# EAGLE library part 61901019521 (library WR-WTB)
WR-WTB 2.54 mm Male Header Characteristics Rated Current: 3 A Working Voltage: 250 V UL 94-V0 Pitch: 2.54 mm Applications Microelectronic Portable devices Industry 4.0 Details see: www.we-online.com/en/components/products/WTB_WR_WTB_2_54_MALE Updated by Ella 2026-07-27 2026 (C) Würth Elektronik
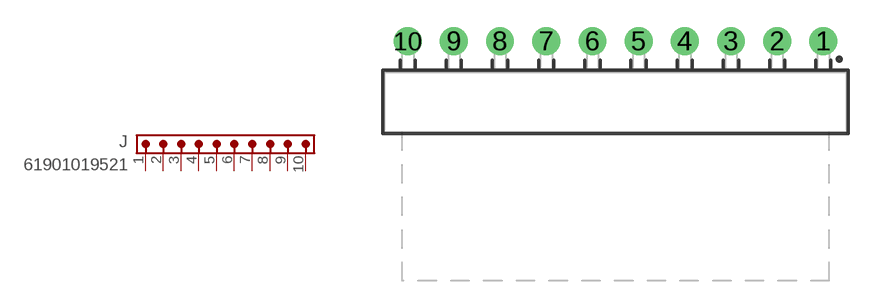
[diagram p57: symbol with the pads of 61901019521; footprint 61901019521]

Designator prefix J

## 61901019521 (CONTACT-RESISTANCE: 20mOhm; DATASHEET: https://www.we-online.com/redexpert/spec/61901019521?ae; GENDER: Male; IR: 3A; L: 25.4mm; MOUNT: THT; PACKAGING: Bag; PART-NUMBER: 61901019521; PCB-CABLE-PANEL: PCB; PINS: 10; PITCH: 2.54mm; TYPE: Right Angled Top Locking; VALUE: 61901019521; WORKING-VOLTAGE: 250V(AC))  [61901019521]
1  1  pas
2  2  pas
3  3  pas
4  4  pas
5  5  pas
6  6  pas
7  7  pas
8  8  pas
9  9  pas
10  10  pas

## Footprint 61901019521 (pad centres in mm)
WR-WTB 2.54 mm Male Header Right Angled Top Locking, THT, 9pins LXWXH=25.4X11.5X5.8mm
drill 1.02: 1 11.43,3.35; 2 8.89,3.35; 3 6.35,3.35; 4 3.81,3.35; 5 1.27,3.35; 6 -1.27,3.35; 7 -3.81,3.35; 8 -6.35,3.35; 9 -8.89,3.35; 10 -11.43,3.35